# Altium footprint library CapacitorsPoll_TH.PcbLib: 4 footprints
Each footprint in its own frame and in the unit in brackets; x right, y up, seen from the top. Pads: shape width x height; smd on the part's side, far side on the other; paste and mask are expansions set on the pad; w line width, h text height; cw(c..) or ccw(c..) is an arc to the next point about the centre after c.
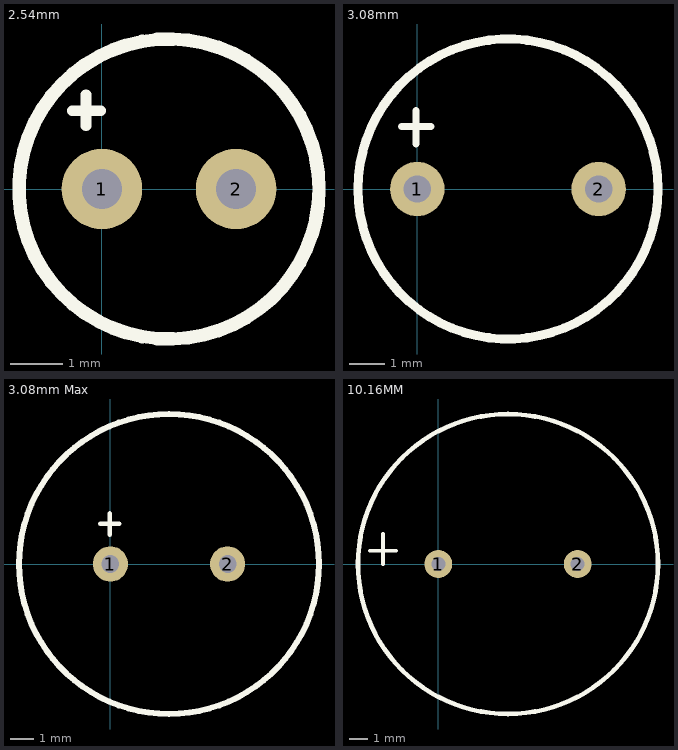
[diagram p0: the footprints below, top view; thin cyan lines are the x and y axes]

## 2.54mm [mil]
pads (2):
  round 60 hole 30: 1(0,0) 2(100,0)
Top Overlay:
  circle w10: c50,0 r111.8
  lines w7.87: -22.05,58.39 -0.98,58.39 ; -11.85,47.01 -11.85,70.31

## 3.08mm [mil]
pads (2):
  round 60 hole 30: 1(0,0) 2(200,0)
Top Overlay:
  circle w10: c100,0 r165.35
  lines w7.87: -17.14,68.71 15.24,68.71 ; -1.26,49.8 -1.26,86.25

## 3.08mm Max [mil]
pads (2):
  round 60 hole 30: 1(0,0) 2(200,0)
Top Overlay:
  circle w10: c100,0 r255.91
  lines w7.87: -17.14,68.71 15.24,68.71 ; -1.26,49.8 -1.26,86.25

## 10.16MM [mil]
pads (2):
  round 60 hole 30: 1(0,0) 2(300,0)
Top Overlay:
  circle w10: c150,0 r322.83
  lines w7.87: -147.59,28.73 -90.7,28.73 ; -119.12,-0.18 -119.12,64.81